# Altium schematic symbol library SamacSys.SchLib: 12 symbols
Pins are listed as number, name and electrical type; pins without a type are passive.

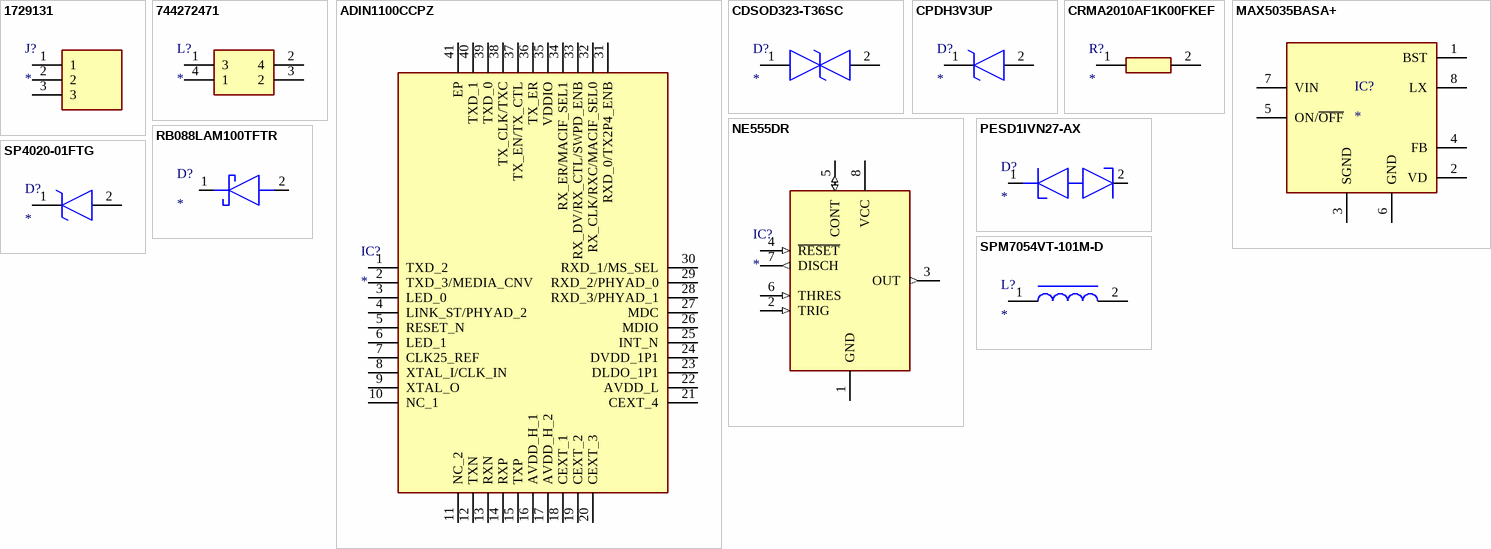
[diagram p0: symbols 1729131 to SPM7054VT-101M-D]

## 1729131
designator J?
Connector; Manufacturer_Name: Phoenix Contact; Manufacturer_Part_Number: 1729131; Description: PCB terminal block; Datasheet Link: http://www.phoenixcontact.com/de/produkte/1729131/pdf; Height: 10.15mm; Mouser Part Number: 651-1729131; Mouser Price/Stock: https://www.mouser.co.uk/ProductDetail/Phoenix-Contact/1729131?qs=GFUSqQMLmmkspw%2F%2FW6PC3g%3D%3D; Arrow Part Number: 1729131; Arrow Price/Stock: https://www.arrow.com/en/products/1729131/phoenix-contact
footprint 1729131
pins: 1, 2, 3

## 744272471
designator L?
Inductor; Manufacturer_Name: Wurth Elektronik; Manufacturer_Part_Number: 744272471; Description: SMD Common Mode Line Filter WE-SL5; Mouser Part Number: 710-744272471; Mouser Price/Stock: https://www.mouser.co.uk/ProductDetail/Wurth-Elektronik/744272471?qs=PGXP4M47uW4cnUBvOIMCOQ%3D%3D
footprint WE-SL575
pins: 1 3, 2 4, 3 2, 4 1

## ADIN1100CCPZ
designator IC?
Integrated Circuit; Manufacturer_Name: Analog Devices; Manufacturer_Part_Number: ADIN1100CCPZ; Datasheet Link: https://www.analog.com/media/en/technical-documentation/data-sheets/adin1100.pdf; Height: 0.8mm; Mouser Part Number: 584-ADIN1100CCPZ; Mouser Price/Stock: https://www.mouser.co.uk/ProductDetail/Analog-Devices/ADIN1100CCPZ?qs=pUKx8fyJudC406QBDc8dqQ%3D%3D; Arrow Part Number: ADIN1100CCPZ; Arrow Price/Stock: https://www.arrow.com/en/products/adin1100ccpz/analog-devices?region=nac
footprint QFN50P600X600X80-41N-D
pins: 1 TXD_2, 2 TXD_3/MEDIA_CNV, 3 LED_0, 4 LINK_ST/PHYAD_2, 5 RESET_N, 6 LED_1, 7 CLK25_REF, 8 XTAL_I/CLK_IN, 9 XTAL_O, 10 NC_1, 11 NC_2, 12 TXN, 13 RXN, 14 RXP, 15 TXP, 16 AVDD_H_1, 17 AVDD_H_2, 18 CEXT_1, 19 CEXT_2, 20 CEXT_3, 21 CEXT_4, 22 AVDD_L, 23 DLDO_1P1, 24 DVDD_1P1, 25 INT_N, 26 MDIO, 27 MDC, 28 RXD_3/PHYAD_1, 29 RXD_2/PHYAD_0, 30 RXD_1/MS_SEL, 31 RXD_0/TX2P4_ENB, 32 RX_CLK/RXC/MACIF_SEL0, 33 RX_DV/RX_CTL/SWPD_ENB, 34 RX_ER/MACIF_SEL1, 35 VDDIO, 36 TX_ER, 37 TX_EN/TX_CTL, 38 TX_CLK/TXC, 39 TXD_0, 40 TXD_1, 41 EP

## CDSOD323-T36SC
designator D?
TVS Diode (Bi-directional); Manufacturer_Name: Bourns; Manufacturer_Part_Number: CDSOD323-T36SC; Datasheet Link: https://www.bourns.com/docs/Product-Datasheets/CDSOD323-TxxSC.pdf; Height: 1.14mm; Mouser Part Number: 652-CDSOD323-T36SC; Mouser Price/Stock: https://www.mouser.co.uk/ProductDetail/Bourns/CDSOD323-T36SC?qs=oyIm%2F3giSj6DNSRMtrXOsA%3D%3D; Arrow Part Number: CDSOD323-T36SC; Arrow Price/Stock: https://www.arrow.com/en/products/cdsod323-t36sc/bourns
footprint SOD2513X114N
pins: 1, 2

## CPDH3V3UP
designator D?
TVS Diode (Uni-directional); Manufacturer_Name: Comchip Technology; Manufacturer_Part_Number: CPDH3V3UP; Description: COMCHIP TECHNOLOGY CPDH3V3UP; Datasheet Link: https://datasheet.datasheetarchive.com/originals/distributors/Datasheets-DGA26/1846145.pdf; Height: 0.77mm; Mouser Part Number: 750-CPDH3V3UP; Mouser Price/Stock: https://www.mouser.co.uk/ProductDetail/Comchip-Technology/CPDH3V3UP?qs=tw%252BuQ%2FB6PO1cIMMFw61gpA%3D%3D; Arrow Part Number: CPDH3V3UP; Arrow Price/Stock: https://www.arrow.com/en/products/cpdh3v3up/comchip-technology
footprint CPDH3V3UP
pins: 1 K, 2 A

## CRMA2010AF1K00FKEF
designator R?
Resistor; Manufacturer_Name: Vishay; Manufacturer_Part_Number: CRMA2010AF1K00FKEF; Description: Thick Film Resistors - SMD 0.50watt 1Kohms 1%; Datasheet Link: https://www.vishay.com/docs/68043/crma.pdf; Height: 0.74mm; Mouser Part Number: 71-CRMA2010AF1K00FKF; Mouser Price/Stock: https://www.mouser.co.uk/ProductDetail/Vishay-Techno/CRMA2010AF1K00FKEF?qs=1mbolxNpo8fLEeNjiEgpoA%3D%3D; Arrow Part Number: CRMA2010AF1K00FKEF; Arrow Price/Stock: https://www.arrow.com/en/products/crma2010af1k00fkef/vishay
footprint RESC5125X74N
pins: 1, 2

## MAX5035BASA+
designator IC?
Integrated Circuit; Manufacturer_Name: Maxim Integrated; Manufacturer_Part_Number: MAX5035BASA+; Datasheet Link: http://datasheets.maximintegrated.com/en/ds/MAX5035.pdf; Height: 1.75mm; Mouser Part Number: 700-MAX5035BASA; Mouser Price/Stock: https://www.mouser.co.uk/ProductDetail/Maxim-Integrated/MAX5035BASA%2b?qs=1THa7WoU59FgpJhZAGMb5g%3D%3D
footprint SOIC127P600X175-8N
pins: 1 BST, 2 VD, 3 SGND, 4 FB, 5 ON/~{OFF}, 6 GND, 7 VIN, 8 LX

## NE555DR
designator IC?
Integrated Circuit; Manufacturer_Name: Texas Instruments; Manufacturer_Part_Number: NE555DR; Datasheet Link: http://www.ti.com/lit/ds/symlink/ne555.pdf; Height: 1.75mm; Mouser Part Number: 595-NE555DR; Mouser Price/Stock: https://www.mouser.com/Search/Refine.aspx?Keyword=595-NE555DR; RS Part Number: 1218414; RS Price/Stock: http://uk.rs-online.com/web/p/products/1218414
footprint SOIC127P600X175-8N
pins: 1 GND (power), 2 TRIG (in), 3 OUT (out), 4 ~{RESET} (in), 5 CONT (io), 6 THRES (in), 7 DISCH (out), 8 VCC (power)

## PESD1IVN27-AX
designator D?
Diode ESD (Bi-directional); Manufacturer_Name: Nexperia; Manufacturer_Part_Number: PESD1IVN27-AX; Description: ESD Suppressors / TVS Diodes ESD protection for In-vehicle networks; Datasheet Link: https://assets.nexperia.com/documents/data-sheet/PESD1IVN27-A.pdf; Height: 1.1mm; Mouser Part Number: 771-PESD1IVN27-AX; Mouser Price/Stock: https://www.mouser.co.uk/ProductDetail/Nexperia/PESD1IVN27-AX?qs=0lQeLiL1qyYTtxrCfdJstQ%3D%3D; Arrow Part Number: PESD1IVN27-AX; Arrow Price/Stock: https://www.arrow.com/en/products/pesd1ivn27-ax/nexperia
footprint PESD1IVN27AX
pins: 1 K1, 2 K2

## RB088LAM100TFTR
designator D?
Schottky Diode; Manufacturer_Name: ROHM Semiconductor; Manufacturer_Part_Number: RB088LAM100TFTR; Datasheet Link: https://datasheet.datasheetarchive.com/originals/distributors/DKDS-39/8680.pdf; Height: 1.05mm; Mouser Part Number: 755-RB088LAM100TFTR; Mouser Price/Stock: https://www.mouser.co.uk/ProductDetail/ROHM-Semiconductor/RB088LAM100TFTR?qs=F5EMLAvA7IBXK%2Ft6O%252B6mTA%3D%3D
footprint SODFL4725X105N
pins: 1 K, 2 A

## SP4020-01FTG
designator D?
TVS Diode (Uni-directional); Manufacturer_Name: LITTELFUSE; Manufacturer_Part_Number: SP4020-01FTG; Datasheet Link: https://www.littelfuse.com/~/media/electronics/datasheets/tvs_diode_arrays/littelfuse_tvs_diode_array_sp4020_datasheet.pdf.pdf; Height: 1.14mm; Mouser Part Number: 576-SP4020-01FTG; Mouser Price/Stock: https://www.mouser.co.uk/ProductDetail/Littelfuse/SP4020-01FTG?qs=eIdvKxokjW4Yi6Ov7kZjPg%3D%3D; Arrow Part Number: SP4020-01FTG; Arrow Price/Stock: https://www.arrow.com/en/products/sp4020-01ftg/littelfuse?region=nac
footprint SOD2613X114N
pins: 1 K, 2 A

## SPM7054VT-101M-D
designator L?
Inductor (FeSi Core); Manufacturer_Name: TDK; Manufacturer_Part_Number: SPM7054VT-101M-D; Datasheet Link: https://product.tdk.com/system/files/dam/doc/product/inductor/inductor/smd/catalog/inductor_automotive_power_spm7054vt-d_en.pdf; Mouser Part Number: 810-SPM7054VT-101M-D; Mouser Price/Stock: https://www.mouser.co.uk/ProductDetail/TDK/SPM7054VT-101M-D/?qs=byeeYqUIh0MPh4h9VcxBVA%3D%3D; Arrow Part Number: SPM7054VT-101M-D; Arrow Price/Stock: https://www.arrow.com/en/products/spm7054vt-101m-d/tdk
footprint SPM7054VT
pins: 1, 2